# EAGLE library part GMG12864 (library dragberry)
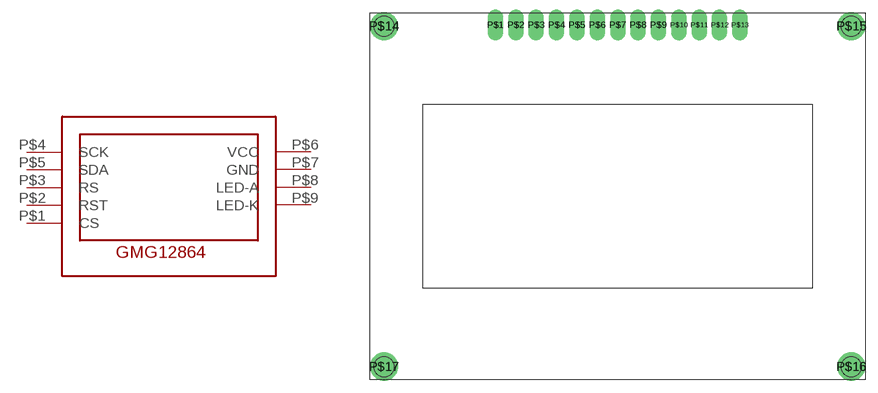
[diagram p4: symbol with the pads of GMG12864; footprint GMG12864]

Designator prefix HG

## GMG1286406D  [GMG12864]
P$1  CS
P$2  RST
P$3  RS
P$4  SCK
P$5  SDA
P$6  VCC
P$7  GND
P$8  LED-A
P$9  LED-K

## Footprint GMG12864 (pad centres in mm)
drill 1 pad 1.93 long: P$1 -15.24,21.4; P$2 -12.7,21.4; P$3 -10.16,21.4; P$4 -7.62,21.4; P$5 -5.08,21.4; P$6 -2.54,21.4; P$7 0,21.4; P$8 2.54,21.4; P$9 5.08,21.4; P$10 7.62,21.4; P$11 10.16,21.4; P$12 12.7,21.4; P$13 15.24,21.4
drill 2.5: P$14 -29.15,21.25; P$15 29.15,21.25; P$16 29.15,-21.25; P$17 -29.15,-21.25